# Altium schematic symbol library 61201021721.SchLib: 1 symbol
Pins are listed as number, name and electrical type; pins without a type are passive.

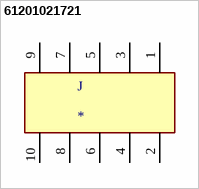
[diagram p0: symbol 61201021721]

## 61201021721
designator J
Connector Header Through Hole, Right Angle 10 position 0.100 (2.54mm); MF: Wurth Electronics; MP: 61201021721; Package: None; Mouser-Purchase-URL: https://snapeda.com/shop?store=Mouser&id=1276720; Value: *; Price: None; DigiKey-Purchase-URL: https://snapeda.com/shop?store=DigiKey&id=1276720; Availability: Warning; SnapEDA_Link: https://www.snapeda.com/parts/61201021721/Wurth%20Electronics%20Inc./view-part/1276720/?ref=snap
footprint 61201021721
pins: 1 10, 2 9, 3 8, 4 7, 5 6, 6 5, 7 4, 8 3, 9 2, 10 1